# EAGLE library part O__WII_KAMERA (library ++Bedrahtet)
Kamera aus einer Wii.
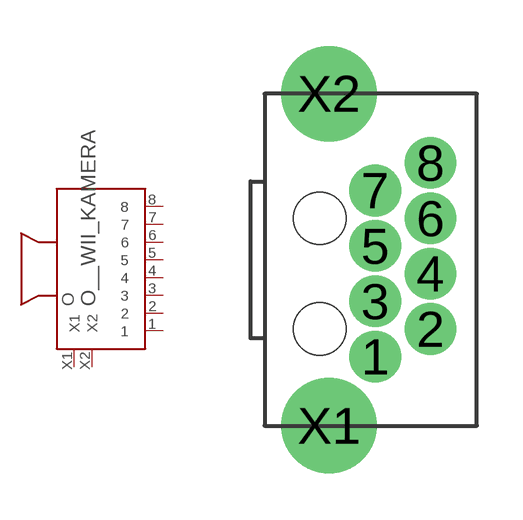
[diagram p12: symbol with the pads of WII_KAMERA; footprint WII_KAMERA]

Designator prefix O

## O__WII_KAMERA  [WII_KAMERA]
1  1
2  2
3  3
4  4
5  5
6  6
7  7
8  8
X1  X1
X2  X2

## Footprint WII_KAMERA (pad centres in mm)
drill 0.8 pad 1.676: 1 0.6,-3.15; 2 2.4,-2.25; 3 0.6,-1.35; 4 2.4,-0.45; 5 0.6,0.45; 6 2.4,1.35; 7 0.6,2.25; 8 2.4,3.15
drill 1.9 pad 3.1: X1 -0.9,-5.4; X2 -0.9,5.4
hole 1.7 at -1.2,1.35
hole 1.7 at -1.2,-2.25